# Altium schematic symbol library LTC1151.SchLib: 1 symbol
Pins are listed as number, name and electrical type; pins without a type are passive.

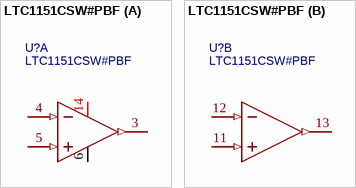
[diagram p0: symbol LTC1151CSW#PBF]

## LTC1151CSW#PBF
designator U?
双通道 ±15V 零漂移运算放大器; subpart_no: 1; Manufacturer: ADI(亚德诺); Supplier: LCSC; Supplier Part: C580356; Manufacturer Part: LTC1151CSW#PBF; JLCPCB Part Class: Extended Part; spicePre: U; spiceSymbolName: LTC1151CSW#PBF
footprint SO-16_L10.3-W7.5-P1.27-LS10.3-BL
part A pins: 3 OUT A (out), 4 -IN A (in), 5 +IN A (in), 6 V- (power), 14 V+ (power)
part B pins: 11 +IN B (in), 12 -IN B (in), 13 OUT B (out)